# Altium integrated library NSC Interface.IntLib: 1288 symbols (part 12 of 45)
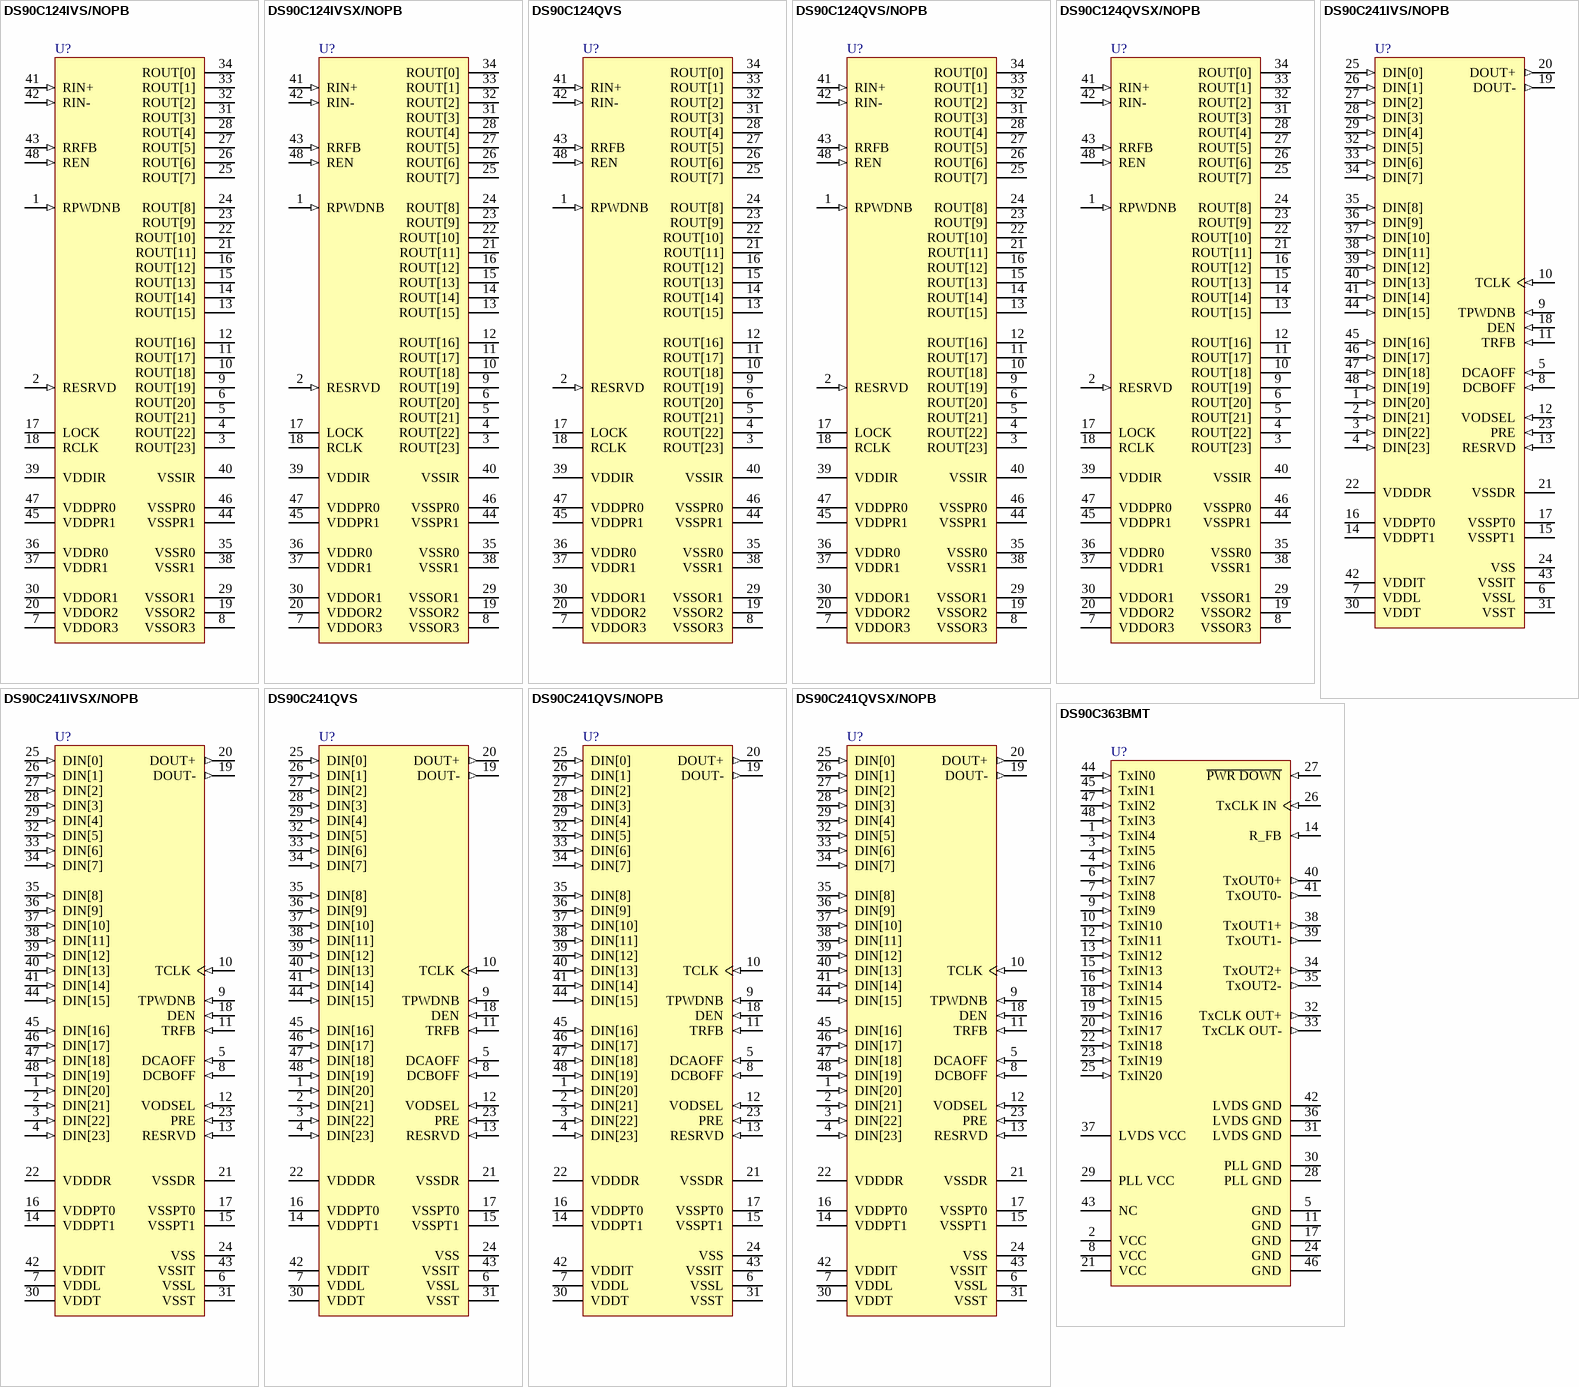
[diagram p123: symbols DS90C124IVS/NOPB to DS90C363BMT]

## DS90C124QVS
designator U?
5-35MHz DC- Balanced 24-Bit FPD-Link II Deserializer, 48 pin TQFP; PartNumber: DS90C124QVS; Manufacturer: National Semiconductor; PackageTopMarking: NSUZXYTT*DS90C124*QVS; PowerWise: N; CompType: Interface IC; Published: 4-Dec-2008; LatestRevisionDate: 01-Oct-2010; LatestRevisionNote: Changed description. Updated datasheet to version Aug-2009.; DatasheetVersion: Aug-2009; PackageVersion: revA, Apr-2000; PackageReference: VBC48A; Publisher: Altium Limited; PackageDescription: TQFP, Jedec Metric, 7 x 7 x 1mm, 48 Lead, 0.5mm Pitch; RoHS: Y; PinCount: 48; Code_JEDEC: MS-026-ABC; ComponentLink1Description: DS90C124 Datasheet; ComponentLink1URL: http://www.national.com/ds/DS/DS90C124.pdf; ComponentLink2Description: DS90C124 Web Page; ComponentLink2URL: http://www.national.com/pf/DS/DS90C124.html; ComponentLink3Description: VBC48A Package Page; ComponentLink3URL: http://www.national.com/packaging/folders/vbc48a.html
footprint VBC48A_N (Thin QFP, 48-Leads, Body 7x7mm, Pitch 0.5mm, IPC Medium Density)
footprint VBC48A_L (Thin QFP, 48-Leads, Body 7x7mm, Pitch 0.5mm, IPC High Density)
footprint VBC48A_M (Thin QFP, 48-Leads, Body 7x7mm, Pitch 0.5mm, IPC Low Density)
pins: 1 RPWDNB (in), 2 RESRVD (in), 3 ROUT[23] (hiz), 4 ROUT[22] (hiz), 5 ROUT[21] (hiz), 6 ROUT[20] (hiz), 7 VDDOR3 (power), 8 VSSOR3 (power), 9 ROUT[19] (hiz), 10 ROUT[18] (hiz), 11 ROUT[17] (hiz), 12 ROUT[16] (hiz), 13 ROUT[15] (hiz), 14 ROUT[14] (hiz), 15 ROUT[13] (hiz), 16 ROUT[12] (hiz), 17 LOCK (hiz), 18 RCLK (hiz), 19 VSSOR2 (power), 20 VDDOR2 (power), 21 ROUT[11] (hiz), 22 ROUT[10] (hiz), 23 ROUT[9] (hiz), 24 ROUT[8] (hiz), 25 ROUT[7] (hiz), 26 ROUT[6] (hiz), 27 ROUT[5] (hiz), 28 ROUT[4] (hiz), 29 VSSOR1 (power), 30 VDDOR1 (power), 31 ROUT[3] (hiz), 32 ROUT[2] (hiz), 33 ROUT[1] (hiz), 34 ROUT[0] (hiz), 35 VSSR0 (power), 36 VDDR0 (power), 37 VDDR1 (power), 38 VSSR1 (power), 39 VDDIR (power), 40 VSSIR (power), 41 RIN+ (in), 42 RIN- (in), 43 RRFB (in), 44 VSSPR1 (power), 45 VDDPR1 (power), 46 VSSPR0 (power), 47 VDDPR0 (power), 48 REN (in)

## DS90C124QVS/NOPB
designator U?
5-35MHz DC- Balanced 24-Bit FPD-Link II Deserializer, 48-pin TQFP, Pb-Free; PartNumber: DS90C124QVS/NOPB; Manufacturer: National Semiconductor; PackageTopMarking: NSUZXYTT*DS90C124*QVS; PowerWise: N; CompType: Interface IC; Published: 1-Mar-2010; LatestRevisionDate: 01-Oct-2010; LatestRevisionNote: Updated datasheet to version Aug-2009.; DatasheetVersion: Aug-2009; PackageVersion: revA, Apr-2000; PackageReference: VBC48A; Publisher: Altium Limited; PackageDescription: TQFP, Jedec Metric, 7 x 7 x 1mm, 48 Lead, 0.5mm Pitch; Supplier 1: Digi-Key; Supplier Part Number 1: DS90C124QVS-ND; RoHS: Y; PinCount: 48; Code_JEDEC: MS-026-ABC; ComponentLink1Description: DS90C124 Datasheet; ComponentLink1URL: http://www.national.com/ds/DS/DS90C124.pdf; ComponentLink2Description: DS90C124 Web Page; ComponentLink2URL: http://www.national.com/pf/DS/DS90C124.html; ComponentLink3Description: VBC48A Package Page; ComponentLink3URL: http://www.national.com/packaging/folders/vbc48a.html
footprint VBC48A_N (Thin QFP, 48-Leads, Body 7x7mm, Pitch 0.5mm, IPC Medium Density)
footprint VBC48A_L (Thin QFP, 48-Leads, Body 7x7mm, Pitch 0.5mm, IPC High Density)
footprint VBC48A_M (Thin QFP, 48-Leads, Body 7x7mm, Pitch 0.5mm, IPC Low Density)
pins: 1 RPWDNB (in), 2 RESRVD (in), 3 ROUT[23] (hiz), 4 ROUT[22] (hiz), 5 ROUT[21] (hiz), 6 ROUT[20] (hiz), 7 VDDOR3 (power), 8 VSSOR3 (power), 9 ROUT[19] (hiz), 10 ROUT[18] (hiz), 11 ROUT[17] (hiz), 12 ROUT[16] (hiz), 13 ROUT[15] (hiz), 14 ROUT[14] (hiz), 15 ROUT[13] (hiz), 16 ROUT[12] (hiz), 17 LOCK (hiz), 18 RCLK (hiz), 19 VSSOR2 (power), 20 VDDOR2 (power), 21 ROUT[11] (hiz), 22 ROUT[10] (hiz), 23 ROUT[9] (hiz), 24 ROUT[8] (hiz), 25 ROUT[7] (hiz), 26 ROUT[6] (hiz), 27 ROUT[5] (hiz), 28 ROUT[4] (hiz), 29 VSSOR1 (power), 30 VDDOR1 (power), 31 ROUT[3] (hiz), 32 ROUT[2] (hiz), 33 ROUT[1] (hiz), 34 ROUT[0] (hiz), 35 VSSR0 (power), 36 VDDR0 (power), 37 VDDR1 (power), 38 VSSR1 (power), 39 VDDIR (power), 40 VSSIR (power), 41 RIN+ (in), 42 RIN- (in), 43 RRFB (in), 44 VSSPR1 (power), 45 VDDPR1 (power), 46 VSSPR0 (power), 47 VDDPR0 (power), 48 REN (in)

## DS90C124QVSX/NOPB
designator U?
5-35MHz DC- Balanced 24-Bit FPD-Link II Deserializer, 48-pin TQFP, Pb-Free; PartNumber: DS90C124QVSX/NOPB; Manufacturer: National Semiconductor; PackageTopMarking: NSUZXYTT*DS90C124*QVS; PowerWise: N; CompType: Interface IC; Published: 1-Mar-2010; LatestRevisionDate: 01-Oct-2010; LatestRevisionNote: Updated datasheet to version Aug-2009.; DatasheetVersion: Aug-2009; PackageVersion: revA, Apr-2000; PackageReference: VBC48A; Publisher: Altium Limited; PackageDescription: TQFP, Jedec Metric, 7 x 7 x 1mm, 48 Lead, 0.5mm Pitch; Supplier 1: Digi-Key; Supplier Part Number 1: DS90C124QVSX-ND; RoHS: Y; PinCount: 48; Code_JEDEC: MS-026-ABC; ComponentLink1Description: DS90C124 Datasheet; ComponentLink1URL: http://www.national.com/ds/DS/DS90C124.pdf; ComponentLink2Description: DS90C124 Web Page; ComponentLink2URL: http://www.national.com/pf/DS/DS90C124.html; ComponentLink3Description: VBC48A Package Page; ComponentLink3URL: http://www.national.com/packaging/folders/vbc48a.html
footprint VBC48A_N (Thin QFP, 48-Leads, Body 7x7mm, Pitch 0.5mm, IPC Medium Density)
footprint VBC48A_L (Thin QFP, 48-Leads, Body 7x7mm, Pitch 0.5mm, IPC High Density)
footprint VBC48A_M (Thin QFP, 48-Leads, Body 7x7mm, Pitch 0.5mm, IPC Low Density)
pins: 1 RPWDNB (in), 2 RESRVD (in), 3 ROUT[23] (hiz), 4 ROUT[22] (hiz), 5 ROUT[21] (hiz), 6 ROUT[20] (hiz), 7 VDDOR3 (power), 8 VSSOR3 (power), 9 ROUT[19] (hiz), 10 ROUT[18] (hiz), 11 ROUT[17] (hiz), 12 ROUT[16] (hiz), 13 ROUT[15] (hiz), 14 ROUT[14] (hiz), 15 ROUT[13] (hiz), 16 ROUT[12] (hiz), 17 LOCK (hiz), 18 RCLK (hiz), 19 VSSOR2 (power), 20 VDDOR2 (power), 21 ROUT[11] (hiz), 22 ROUT[10] (hiz), 23 ROUT[9] (hiz), 24 ROUT[8] (hiz), 25 ROUT[7] (hiz), 26 ROUT[6] (hiz), 27 ROUT[5] (hiz), 28 ROUT[4] (hiz), 29 VSSOR1 (power), 30 VDDOR1 (power), 31 ROUT[3] (hiz), 32 ROUT[2] (hiz), 33 ROUT[1] (hiz), 34 ROUT[0] (hiz), 35 VSSR0 (power), 36 VDDR0 (power), 37 VDDR1 (power), 38 VSSR1 (power), 39 VDDIR (power), 40 VSSIR (power), 41 RIN+ (in), 42 RIN- (in), 43 RRFB (in), 44 VSSPR1 (power), 45 VDDPR1 (power), 46 VSSPR0 (power), 47 VDDPR0 (power), 48 REN (in)

## DS90C241IVS/NOPB
designator U?
5-35MHz DC- Balanced 24-Bit FPD-Link II Serializer, 48 pin TQFP; PartNumber: DS90C241IVS/NOPB; Manufacturer: National Semiconductor; PackageTopMarking: NSUZXYTT*DS90C241*IVS; PowerWise: N; CompType: Interface IC; Published: 16-Nov-2010; DatasheetVersion: Aug-2009; PackageVersion: revA, Apr-2000; PackageReference: VBC48A; Publisher: Altium Limited; PackageDescription: TQFP, Jedec Metric, 7 x 7 x 1mm, 48 Lead, 0.5mm Pitch; Supplier 1: Digi-Key; Supplier Part Number 1: DS90C241IVS-ND; Supplier 2: Farnell; Supplier Part Number 2: 1654917; RoHS: Y; PinCount: 48; Code_JEDEC: MS-026-ABC; ComponentLink1Description: DS90C241 Datasheet; ComponentLink1URL: http://www.national.com/ds/DS/DS90C241.pdf; ComponentLink2Description: DS90C241 Web Page; ComponentLink2URL: http://www.national.com/pf/DS/DS90C241.html; ComponentLink3Description: VBC48A Package Page; ComponentLink3URL: http://www.national.com/packaging/folders/vbc48a.html
footprint VBC48A_N (Thin QFP, 48-Leads, Body 7x7mm, Pitch 0.5mm, IPC Medium Density)
footprint VBC48A_L (Thin QFP, 48-Leads, Body 7x7mm, Pitch 0.5mm, IPC High Density)
footprint VBC48A_M (Thin QFP, 48-Leads, Body 7x7mm, Pitch 0.5mm, IPC Low Density)
pins: 1 DIN[20] (in), 2 DIN[21] (in), 3 DIN[22] (in), 4 DIN[23] (in), 5 DCAOFF (in), 6 VSSL (power), 7 VDDL (power), 8 DCBOFF (in), 9 TPWDNB (in), 10 TCLK (in), 11 TRFB (in), 12 VODSEL (in), 13 RESRVD (in), 14 VDDPT1 (power), 15 VSSPT1 (power), 16 VDDPT0 (power), 17 VSSPT0 (power), 18 DEN (in), 19 DOUT- (out), 20 DOUT+ (out), 21 VSSDR (power), 22 VDDDR (power), 23 PRE (in), 24 VSS (power), 25 DIN[0] (in), 26 DIN[1] (in), 27 DIN[2] (in), 28 DIN[3] (in), 29 DIN[4] (in), 30 VDDT (power), 31 VSST (power), 32 DIN[5] (in), 33 DIN[6] (in), 34 DIN[7] (in), 35 DIN[8] (in), 36 DIN[9] (in), 37 DIN[10] (in), 38 DIN[11] (in), 39 DIN[12] (in), 40 DIN[13] (in), 41 DIN[14] (in), 42 VDDIT (power), 43 VSSIT (power), 44 DIN[15] (in), 45 DIN[16] (in), 46 DIN[17] (in), 47 DIN[18] (in), 48 DIN[19] (in)

## DS90C241IVSX/NOPB
designator U?
5-35MHz DC- Balanced 24-Bit FPD-Link II Serializer, 48 pin TQFP; PartNumber: DS90C241IVSX/NOPB; Manufacturer: National Semiconductor; PackageTopMarking: NSUZXYTT*DS90C241*IVS; PowerWise: N; CompType: Interface IC; Published: 16-Nov-2010; DatasheetVersion: Aug-2009; PackageVersion: revA, Apr-2000; PackageReference: VBC48A; Publisher: Altium Limited; PackageDescription: TQFP, Jedec Metric, 7 x 7 x 1mm, 48 Lead, 0.5mm Pitch; Supplier 1: Digi-Key; Supplier Part Number 1: DS90C241IVSX-ND; RoHS: Y; PinCount: 48; Code_JEDEC: MS-026-ABC; ComponentLink1Description: DS90C241 Datasheet; ComponentLink1URL: http://www.national.com/ds/DS/DS90C241.pdf; ComponentLink2Description: DS90C241 Web Page; ComponentLink2URL: http://www.national.com/pf/DS/DS90C241.html; ComponentLink3Description: VBC48A Package Page; ComponentLink3URL: http://www.national.com/packaging/folders/vbc48a.html
footprint VBC48A_N (Thin QFP, 48-Leads, Body 7x7mm, Pitch 0.5mm, IPC Medium Density)
footprint VBC48A_L (Thin QFP, 48-Leads, Body 7x7mm, Pitch 0.5mm, IPC High Density)
footprint VBC48A_M (Thin QFP, 48-Leads, Body 7x7mm, Pitch 0.5mm, IPC Low Density)
pins: 1 DIN[20] (in), 2 DIN[21] (in), 3 DIN[22] (in), 4 DIN[23] (in), 5 DCAOFF (in), 6 VSSL (power), 7 VDDL (power), 8 DCBOFF (in), 9 TPWDNB (in), 10 TCLK (in), 11 TRFB (in), 12 VODSEL (in), 13 RESRVD (in), 14 VDDPT1 (power), 15 VSSPT1 (power), 16 VDDPT0 (power), 17 VSSPT0 (power), 18 DEN (in), 19 DOUT- (out), 20 DOUT+ (out), 21 VSSDR (power), 22 VDDDR (power), 23 PRE (in), 24 VSS (power), 25 DIN[0] (in), 26 DIN[1] (in), 27 DIN[2] (in), 28 DIN[3] (in), 29 DIN[4] (in), 30 VDDT (power), 31 VSST (power), 32 DIN[5] (in), 33 DIN[6] (in), 34 DIN[7] (in), 35 DIN[8] (in), 36 DIN[9] (in), 37 DIN[10] (in), 38 DIN[11] (in), 39 DIN[12] (in), 40 DIN[13] (in), 41 DIN[14] (in), 42 VDDIT (power), 43 VSSIT (power), 44 DIN[15] (in), 45 DIN[16] (in), 46 DIN[17] (in), 47 DIN[18] (in), 48 DIN[19] (in)

## DS90C241QVS
designator U?
5-35MHz DC- Balanced 24-Bit LVDS Serializer, 48-pin TQFP; PartNumber: DS90C241QVS; Manufacturer: National Semiconductor; PackageTopMarking: NSUZXYTT*DS90C241*QVS; PowerWise: N; CompType: Interface IC; Published: 4-Dec-2008; DatasheetVersion: Aug-2009; PackageVersion: revA, Apr-2000; PackageReference: VBC48A; Publisher: Altium Limited; PackageDescription: TQFP, Jedec Metric, 7 x 7 x 1mm, 48 Lead, 0.5mm Pitch; Supplier 1: Farnell; Supplier Part Number 1: 1589515; RoHS: Y; PinCount: 48; Code_JEDEC: MS-026-ABC; ComponentLink1Description: DS90C241 Datasheet; ComponentLink1URL: http://www.national.com/ds/DS/DS90C241.pdf; ComponentLink2Description: DS90C241 Web Page; ComponentLink2URL: http://www.national.com/pf/DS/DS90C241.html; ComponentLink3Description: VBC48A Package Page; ComponentLink3URL: http://www.national.com/packaging/folders/vbc48a.html
footprint VBC48A_N (Thin QFP, 48-Leads, Body 7x7mm, Pitch 0.5mm, IPC Medium Density)
footprint VBC48A_L (Thin QFP, 48-Leads, Body 7x7mm, Pitch 0.5mm, IPC High Density)
footprint VBC48A_M (Thin QFP, 48-Leads, Body 7x7mm, Pitch 0.5mm, IPC Low Density)
pins: 1 DIN[20] (in), 2 DIN[21] (in), 3 DIN[22] (in), 4 DIN[23] (in), 5 DCAOFF (in), 6 VSSL (power), 7 VDDL (power), 8 DCBOFF (in), 9 TPWDNB (in), 10 TCLK (in), 11 TRFB (in), 12 VODSEL (in), 13 RESRVD (in), 14 VDDPT1 (power), 15 VSSPT1 (power), 16 VDDPT0 (power), 17 VSSPT0 (power), 18 DEN (in), 19 DOUT- (out), 20 DOUT+ (out), 21 VSSDR (power), 22 VDDDR (power), 23 PRE (in), 24 VSS (power), 25 DIN[0] (in), 26 DIN[1] (in), 27 DIN[2] (in), 28 DIN[3] (in), 29 DIN[4] (in), 30 VDDT (power), 31 VSST (power), 32 DIN[5] (in), 33 DIN[6] (in), 34 DIN[7] (in), 35 DIN[8] (in), 36 DIN[9] (in), 37 DIN[10] (in), 38 DIN[11] (in), 39 DIN[12] (in), 40 DIN[13] (in), 41 DIN[14] (in), 42 VDDIT (power), 43 VSSIT (power), 44 DIN[15] (in), 45 DIN[16] (in), 46 DIN[17] (in), 47 DIN[18] (in), 48 DIN[19] (in)

## DS90C241QVS/NOPB
designator U?
5-35MHz DC- Balanced 24-Bit FPD-Link II Serializer, 48-pin TQFP, Pb-Free; PartNumber: DS90C241QVS/NOPB; Manufacturer: National Semiconductor; PackageTopMarking: NSUZXYTT*DS90C241*QVS; PowerWise: N; CompType: Interface IC; Published: 1-Mar-2010; DatasheetVersion: Aug-2009; PackageVersion: revA, Apr-2000; PackageReference: VBC48A; Publisher: Altium Limited; PackageDescription: TQFP, Jedec Metric, 7 x 7 x 1mm, 48 Lead, 0.5mm Pitch; Supplier 1: Digi-Key; Supplier Part Number 1: DS90C241QVS-ND; RoHS: Y; PinCount: 48; Code_JEDEC: MS-026-ABC; ComponentLink1Description: DS90C241 Datasheet; ComponentLink1URL: http://www.national.com/ds/DS/DS90C241.pdf; ComponentLink2Description: DS90C241 Web Page; ComponentLink2URL: http://www.national.com/pf/DS/DS90C241.html; ComponentLink3Description: VBC48A Package Page; ComponentLink3URL: http://www.national.com/packaging/folders/vbc48a.html
footprint VBC48A_N (Thin QFP, 48-Leads, Body 7x7mm, Pitch 0.5mm, IPC Medium Density)
footprint VBC48A_L (Thin QFP, 48-Leads, Body 7x7mm, Pitch 0.5mm, IPC High Density)
footprint VBC48A_M (Thin QFP, 48-Leads, Body 7x7mm, Pitch 0.5mm, IPC Low Density)
pins: 1 DIN[20] (in), 2 DIN[21] (in), 3 DIN[22] (in), 4 DIN[23] (in), 5 DCAOFF (in), 6 VSSL (power), 7 VDDL (power), 8 DCBOFF (in), 9 TPWDNB (in), 10 TCLK (in), 11 TRFB (in), 12 VODSEL (in), 13 RESRVD (in), 14 VDDPT1 (power), 15 VSSPT1 (power), 16 VDDPT0 (power), 17 VSSPT0 (power), 18 DEN (in), 19 DOUT- (out), 20 DOUT+ (out), 21 VSSDR (power), 22 VDDDR (power), 23 PRE (in), 24 VSS (power), 25 DIN[0] (in), 26 DIN[1] (in), 27 DIN[2] (in), 28 DIN[3] (in), 29 DIN[4] (in), 30 VDDT (power), 31 VSST (power), 32 DIN[5] (in), 33 DIN[6] (in), 34 DIN[7] (in), 35 DIN[8] (in), 36 DIN[9] (in), 37 DIN[10] (in), 38 DIN[11] (in), 39 DIN[12] (in), 40 DIN[13] (in), 41 DIN[14] (in), 42 VDDIT (power), 43 VSSIT (power), 44 DIN[15] (in), 45 DIN[16] (in), 46 DIN[17] (in), 47 DIN[18] (in), 48 DIN[19] (in)

## DS90C241QVSX/NOPB
designator U?
5-35MHz DC- Balanced 24-Bit FPD-Link II Serializer, 48-pin TQFP, Pb-Free; PartNumber: DS90C241QVSX/NOPB; Manufacturer: National Semiconductor; PackageTopMarking: NSUZXYTT*DS90C241*QVS; PowerWise: N; CompType: Interface IC; Published: 1-Mar-2010; DatasheetVersion: Aug-2009; PackageVersion: revA, Apr-2000; PackageReference: VBC48A; Publisher: Altium Limited; PackageDescription: TQFP, Jedec Metric, 7 x 7 x 1mm, 48 Lead, 0.5mm Pitch; Supplier 1: Digi-Key; Supplier Part Number 1: DS90C241QVSX-ND; RoHS: Y; PinCount: 48; Code_JEDEC: MS-026-ABC; ComponentLink1Description: DS90C241 Datasheet; ComponentLink1URL: http://www.national.com/ds/DS/DS90C241.pdf; ComponentLink2Description: DS90C241 Web Page; ComponentLink2URL: http://www.national.com/pf/DS/DS90C241.html; ComponentLink3Description: VBC48A Package Page; ComponentLink3URL: http://www.national.com/packaging/folders/vbc48a.html
footprint VBC48A_N (Thin QFP, 48-Leads, Body 7x7mm, Pitch 0.5mm, IPC Medium Density)
footprint VBC48A_L (Thin QFP, 48-Leads, Body 7x7mm, Pitch 0.5mm, IPC High Density)
footprint VBC48A_M (Thin QFP, 48-Leads, Body 7x7mm, Pitch 0.5mm, IPC Low Density)
pins: 1 DIN[20] (in), 2 DIN[21] (in), 3 DIN[22] (in), 4 DIN[23] (in), 5 DCAOFF (in), 6 VSSL (power), 7 VDDL (power), 8 DCBOFF (in), 9 TPWDNB (in), 10 TCLK (in), 11 TRFB (in), 12 VODSEL (in), 13 RESRVD (in), 14 VDDPT1 (power), 15 VSSPT1 (power), 16 VDDPT0 (power), 17 VSSPT0 (power), 18 DEN (in), 19 DOUT- (out), 20 DOUT+ (out), 21 VSSDR (power), 22 VDDDR (power), 23 PRE (in), 24 VSS (power), 25 DIN[0] (in), 26 DIN[1] (in), 27 DIN[2] (in), 28 DIN[3] (in), 29 DIN[4] (in), 30 VDDT (power), 31 VSST (power), 32 DIN[5] (in), 33 DIN[6] (in), 34 DIN[7] (in), 35 DIN[8] (in), 36 DIN[9] (in), 37 DIN[10] (in), 38 DIN[11] (in), 39 DIN[12] (in), 40 DIN[13] (in), 41 DIN[14] (in), 42 VDDIT (power), 43 VSSIT (power), 44 DIN[15] (in), 45 DIN[16] (in), 46 DIN[17] (in), 47 DIN[18] (in), 48 DIN[19] (in)

## DS90C363BMT
designator U?
+3.3V Programmable LVDS Transmitter 18-Bit Flat Panel Display (FPD) Link - 65MHz, 48-pin TSSOP; PartNumber: DS90C363BMT; Manufacturer: National Semiconductor; PackageTopMarking: NSUZXYTTE#*DS90C363BMT; PowerWise: N; CompType: Interface IC; Published: 4-Dec-2008; DatasheetVersion: Oct-2006; PackageVersion: revE, Apr-2003; PackageReference: MTD48; Publisher: Altium Limited; PackageDescription: Molded TSSOP, Jedec, 12.5 x 6.1 x 0.9mm Body, 48 Lead, 0.50mm Pitch; Supplier 1: Farnell; Supplier Part Number 1: 8181250; RoHS: N; PinCount: 48; Code_JEDEC: MO-153-ED; ComponentLink1Description: DS90C363B Datasheet; ComponentLink1URL: http://www.national.com/ds/DS/DS90C363B.pdf; ComponentLink2Description: DS90C363B Web Page; ComponentLink2URL: http://www.national.com/pf/DS/DS90C363B.html; ComponentLink3Description: MTD48 Package Page; ComponentLink3URL: http://www.national.com/packaging/folders/mtd48.html
footprint MTD48_N (TSSOP, 48-Leads, Body 12.5x6.1mm, Pitch 0.5mm, IPC Medium Density)
footprint MTD48_L (TSSOP, 48-Leads, Body 12.5x6.1mm, Pitch 0.5mm, IPC High Density)
footprint MTD48_M (TSSOP, 48-Leads, Body 12.5x6.1mm, Pitch 0.5mm, IPC Low Density)
pins: 1 TxIN4 (in), 2 VCC (power), 3 TxIN5 (in), 4 TxIN6 (in), 5 GND (power), 6 TxIN7 (in), 7 TxIN8 (in), 8 VCC (power), 9 TxIN9 (in), 10 TxIN10 (in), 11 GND (power), 12 TxIN11 (in), 13 TxIN12 (in), 14 R_FB (in), 15 TxIN13 (in), 16 TxIN14 (in), 17 GND (power), 18 TxIN15 (in), 19 TxIN16 (in), 20 TxIN17 (in), 21 VCC (power), 22 TxIN18 (in), 23 TxIN19 (in), 24 GND (power), 25 TxIN20 (in), 26 TxCLK IN (in), 27 ~{PWR DOWN} (in), 28 PLL GND (power), 29 PLL VCC (power), 30 PLL GND (power), 31 LVDS GND (power), 32 TxCLK OUT+ (out), 33 TxCLK OUT- (out), 34 TxOUT2+ (out), 35 TxOUT2- (out), 36 LVDS GND (power), 37 LVDS VCC (power), 38 TxOUT1+ (out), 39 TxOUT1- (out), 40 TxOUT0+ (out), 41 TxOUT0- (out), 42 LVDS GND (power), 43 NC, 44 TxIN0 (in), 45 TxIN1 (in), 46 GND (power), 47 TxIN2 (in), 48 TxIN3 (in)

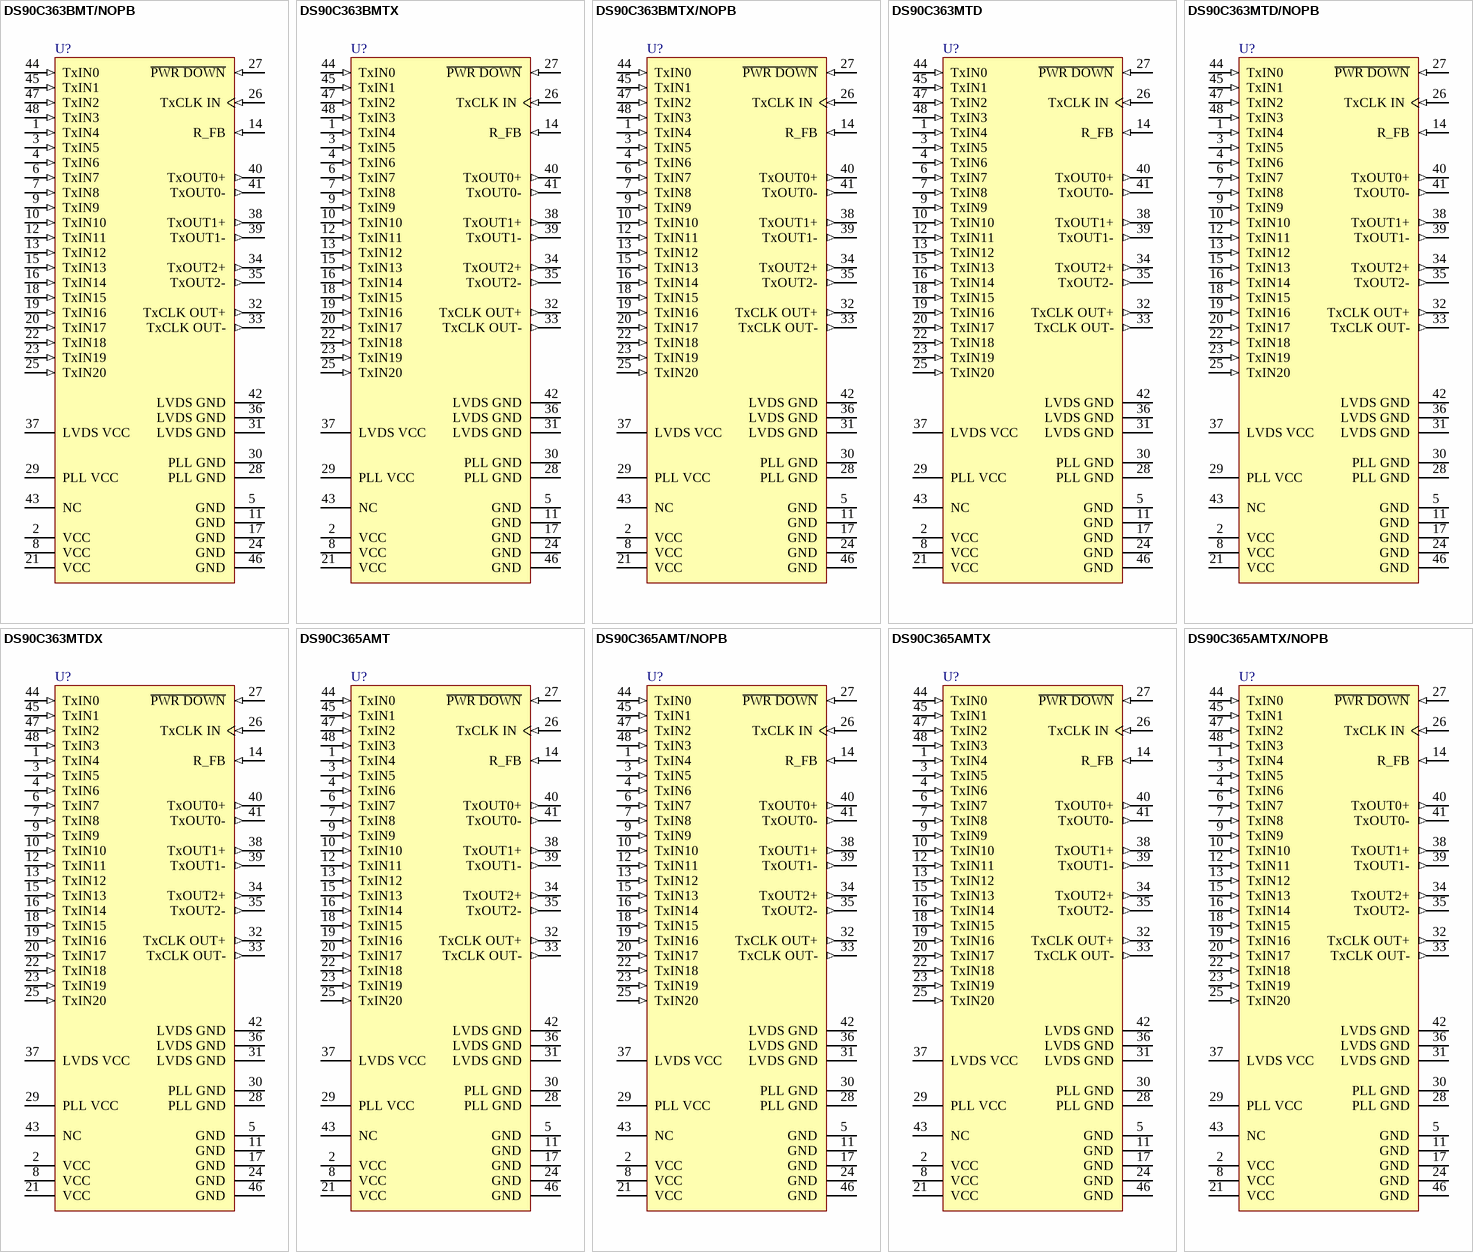
[diagram p28: symbols DS90C363BMT/NOPB to DS90C365AMTX/NOPB]

## DS90C363BMT/NOPB
designator U?
+3.3V Programmable LVDS Transmitter 18-Bit Flat Panel Display (FPD) Link - 65MHz, 48-pin TSSOP, Pb-Free; PartNumber: DS90C363BMT/NOPB; Manufacturer: National Semiconductor; PackageTopMarking: NSUZXYTTE#*DS90C363BMT; PowerWise: N; CompType: Interface IC; Published: 1-Mar-2010; DatasheetVersion: Oct-2006; PackageVersion: revE, Apr-2003; PackageReference: MTD48; Publisher: Altium Limited; PackageDescription: Molded TSSOP, Jedec, 12.5 x 6.1 x 0.9mm Body, 48 Lead, 0.50mm Pitch; Supplier 1: Digi-Key; Supplier Part Number 1: DS90C363BMT-ND; Supplier 2: Farnell; Supplier Part Number 2: 1559306; RoHS: Y; PinCount: 48; Code_JEDEC: MO-153-ED; ComponentLink1Description: DS90C363B Datasheet; ComponentLink1URL: http://www.national.com/ds/DS/DS90C363B.pdf; ComponentLink2Description: DS90C363B Web Page; ComponentLink2URL: http://www.national.com/pf/DS/DS90C363B.html; ComponentLink3Description: MTD48 Package Page; ComponentLink3URL: http://www.national.com/packaging/folders/mtd48.html
footprint MTD48_N (TSSOP, 48-Leads, Body 12.5x6.1mm, Pitch 0.5mm, IPC Medium Density)
footprint MTD48_L (TSSOP, 48-Leads, Body 12.5x6.1mm, Pitch 0.5mm, IPC High Density)
footprint MTD48_M (TSSOP, 48-Leads, Body 12.5x6.1mm, Pitch 0.5mm, IPC Low Density)
pins: 1 TxIN4 (in), 2 VCC (power), 3 TxIN5 (in), 4 TxIN6 (in), 5 GND (power), 6 TxIN7 (in), 7 TxIN8 (in), 8 VCC (power), 9 TxIN9 (in), 10 TxIN10 (in), 11 GND (power), 12 TxIN11 (in), 13 TxIN12 (in), 14 R_FB (in), 15 TxIN13 (in), 16 TxIN14 (in), 17 GND (power), 18 TxIN15 (in), 19 TxIN16 (in), 20 TxIN17 (in), 21 VCC (power), 22 TxIN18 (in), 23 TxIN19 (in), 24 GND (power), 25 TxIN20 (in), 26 TxCLK IN (in), 27 ~{PWR DOWN} (in), 28 PLL GND (power), 29 PLL VCC (power), 30 PLL GND (power), 31 LVDS GND (power), 32 TxCLK OUT+ (out), 33 TxCLK OUT- (out), 34 TxOUT2+ (out), 35 TxOUT2- (out), 36 LVDS GND (power), 37 LVDS VCC (power), 38 TxOUT1+ (out), 39 TxOUT1- (out), 40 TxOUT0+ (out), 41 TxOUT0- (out), 42 LVDS GND (power), 43 NC, 44 TxIN0 (in), 45 TxIN1 (in), 46 GND (power), 47 TxIN2 (in), 48 TxIN3 (in)

## DS90C363BMTX
designator U?
+3.3V Programmable LVDS Transmitter 18-Bit Flat Panel Display (FPD) Link - 65MHz, 48-pin TSSOP; PartNumber: DS90C363BMTX; Manufacturer: National Semiconductor; PackageTopMarking: NSUZXYTTE#*DS90C363BMT; PowerWise: N; CompType: Interface IC; Published: 1-Mar-2010; DatasheetVersion: Oct-2006; PackageVersion: revE, Apr-2003; PackageReference: MTD48; Publisher: Altium Limited; PackageDescription: Molded TSSOP, Jedec, 12.5 x 6.1 x 0.9mm Body, 48 Lead, 0.50mm Pitch; RoHS: N; PinCount: 48; Code_JEDEC: MO-153-ED; ComponentLink1Description: DS90C363B Datasheet; ComponentLink1URL: http://www.national.com/ds/DS/DS90C363B.pdf; ComponentLink2Description: DS90C363B Web Page; ComponentLink2URL: http://www.national.com/pf/DS/DS90C363B.html; ComponentLink3Description: MTD48 Package Page; ComponentLink3URL: http://www.national.com/packaging/folders/mtd48.html
footprint MTD48_N (TSSOP, 48-Leads, Body 12.5x6.1mm, Pitch 0.5mm, IPC Medium Density)
footprint MTD48_L (TSSOP, 48-Leads, Body 12.5x6.1mm, Pitch 0.5mm, IPC High Density)
footprint MTD48_M (TSSOP, 48-Leads, Body 12.5x6.1mm, Pitch 0.5mm, IPC Low Density)
pins: 1 TxIN4 (in), 2 VCC (power), 3 TxIN5 (in), 4 TxIN6 (in), 5 GND (power), 6 TxIN7 (in), 7 TxIN8 (in), 8 VCC (power), 9 TxIN9 (in), 10 TxIN10 (in), 11 GND (power), 12 TxIN11 (in), 13 TxIN12 (in), 14 R_FB (in), 15 TxIN13 (in), 16 TxIN14 (in), 17 GND (power), 18 TxIN15 (in), 19 TxIN16 (in), 20 TxIN17 (in), 21 VCC (power), 22 TxIN18 (in), 23 TxIN19 (in), 24 GND (power), 25 TxIN20 (in), 26 TxCLK IN (in), 27 ~{PWR DOWN} (in), 28 PLL GND (power), 29 PLL VCC (power), 30 PLL GND (power), 31 LVDS GND (power), 32 TxCLK OUT+ (out), 33 TxCLK OUT- (out), 34 TxOUT2+ (out), 35 TxOUT2- (out), 36 LVDS GND (power), 37 LVDS VCC (power), 38 TxOUT1+ (out), 39 TxOUT1- (out), 40 TxOUT0+ (out), 41 TxOUT0- (out), 42 LVDS GND (power), 43 NC, 44 TxIN0 (in), 45 TxIN1 (in), 46 GND (power), 47 TxIN2 (in), 48 TxIN3 (in)

## DS90C363BMTX/NOPB
designator U?
+3.3V Programmable LVDS Transmitter 18-Bit Flat Panel Display (FPD) Link - 65MHz, 48-pin TSSOP, Pb-Free; PartNumber: DS90C363BMTX/NOPB; Manufacturer: National Semiconductor; PackageTopMarking: NSUZXYTTE#*DS90C363BMT; PowerWise: N; CompType: Interface IC; Published: 1-Mar-2010; DatasheetVersion: Oct-2006; PackageVersion: revE, Apr-2003; PackageReference: MTD48; Publisher: Altium Limited; PackageDescription: Molded TSSOP, Jedec, 12.5 x 6.1 x 0.9mm Body, 48 Lead, 0.50mm Pitch; Supplier 1: Digi-Key; Supplier Part Number 1: DS90C363BMTX-ND; RoHS: Y; PinCount: 48; Code_JEDEC: MO-153-ED; ComponentLink1Description: DS90C363B Datasheet; ComponentLink1URL: http://www.national.com/ds/DS/DS90C363B.pdf; ComponentLink2Description: DS90C363B Web Page; ComponentLink2URL: http://www.national.com/pf/DS/DS90C363B.html; ComponentLink3Description: MTD48 Package Page; ComponentLink3URL: http://www.national.com/packaging/folders/mtd48.html
footprint MTD48_N (TSSOP, 48-Leads, Body 12.5x6.1mm, Pitch 0.5mm, IPC Medium Density)
footprint MTD48_L (TSSOP, 48-Leads, Body 12.5x6.1mm, Pitch 0.5mm, IPC High Density)
footprint MTD48_M (TSSOP, 48-Leads, Body 12.5x6.1mm, Pitch 0.5mm, IPC Low Density)
pins: 1 TxIN4 (in), 2 VCC (power), 3 TxIN5 (in), 4 TxIN6 (in), 5 GND (power), 6 TxIN7 (in), 7 TxIN8 (in), 8 VCC (power), 9 TxIN9 (in), 10 TxIN10 (in), 11 GND (power), 12 TxIN11 (in), 13 TxIN12 (in), 14 R_FB (in), 15 TxIN13 (in), 16 TxIN14 (in), 17 GND (power), 18 TxIN15 (in), 19 TxIN16 (in), 20 TxIN17 (in), 21 VCC (power), 22 TxIN18 (in), 23 TxIN19 (in), 24 GND (power), 25 TxIN20 (in), 26 TxCLK IN (in), 27 ~{PWR DOWN} (in), 28 PLL GND (power), 29 PLL VCC (power), 30 PLL GND (power), 31 LVDS GND (power), 32 TxCLK OUT+ (out), 33 TxCLK OUT- (out), 34 TxOUT2+ (out), 35 TxOUT2- (out), 36 LVDS GND (power), 37 LVDS VCC (power), 38 TxOUT1+ (out), 39 TxOUT1- (out), 40 TxOUT0+ (out), 41 TxOUT0- (out), 42 LVDS GND (power), 43 NC, 44 TxIN0 (in), 45 TxIN1 (in), 46 GND (power), 47 TxIN2 (in), 48 TxIN3 (in)

## DS90C363MTD
designator U?
+3.3V Programmable LVDS Transmitter 18-Bit Flat Panel Display (FPD) Link-65 MHz, 48 pin TSSOP; PartNumber: DS90C363MTD; Manufacturer: National Semiconductor; PackageTopMarking: NS2ZXYTTE#*DS90C363MTD*BBBBB; PowerWise: N; CompType: Interface IC; Published: 16-Nov-2010; DatasheetVersion: Sep-1999; PackageVersion: revE, Apr-2003; PackageReference: MTD48; Publisher: Altium Limited; PackageDescription: Molded TSSOP, Jedec, 12.5 x 6.1 x 0.9mm Body, 48 Lead, 0.50mm Pitch; Supplier 1: Digi-Key; Supplier Part Number 1: DS90C363MTD-ND; RoHS: N; PinCount: 48; Code_JEDEC: MO-153-ED; ComponentLink1Description: DS90C363 Datasheet; ComponentLink1URL: http://www.national.com/ds/DS/DS90C363.pdf; ComponentLink2Description: DS90C363 Web Page; ComponentLink2URL: http://www.national.com/pf/DS/DS90C363.html; ComponentLink3Description: MTD48 Package Page; ComponentLink3URL: http://www.national.com/packaging/folders/mtd48.html
footprint MTD48_N (TSSOP, 48-Leads, Body 12.5x6.1mm, Pitch 0.5mm, IPC Medium Density)
footprint MTD48_L (TSSOP, 48-Leads, Body 12.5x6.1mm, Pitch 0.5mm, IPC High Density)
footprint MTD48_M (TSSOP, 48-Leads, Body 12.5x6.1mm, Pitch 0.5mm, IPC Low Density)
pins: 1 TxIN4 (in), 2 VCC (power), 3 TxIN5 (in), 4 TxIN6 (in), 5 GND (power), 6 TxIN7 (in), 7 TxIN8 (in), 8 VCC (power), 9 TxIN9 (in), 10 TxIN10 (in), 11 GND (power), 12 TxIN11 (in), 13 TxIN12 (in), 14 R_FB (in), 15 TxIN13 (in), 16 TxIN14 (in), 17 GND (power), 18 TxIN15 (in), 19 TxIN16 (in), 20 TxIN17 (in), 21 VCC (power), 22 TxIN18 (in), 23 TxIN19 (in), 24 GND (power), 25 TxIN20 (in), 26 TxCLK IN (in), 27 ~{PWR DOWN} (in), 28 PLL GND (power), 29 PLL VCC (power), 30 PLL GND (power), 31 LVDS GND (power), 32 TxCLK OUT+ (out), 33 TxCLK OUT- (out), 34 TxOUT2+ (out), 35 TxOUT2- (out), 36 LVDS GND (power), 37 LVDS VCC (power), 38 TxOUT1+ (out), 39 TxOUT1- (out), 40 TxOUT0+ (out), 41 TxOUT0- (out), 42 LVDS GND (power), 43 NC, 44 TxIN0 (in), 45 TxIN1 (in), 46 GND (power), 47 TxIN2 (in), 48 TxIN3 (in)

## DS90C363MTD/NOPB
designator U?
+3.3V Programmable LVDS Transmitter 18-Bit Flat Panel Display (FPD) Link-65 MHz, 48 pin TSSOP; PartNumber: DS90C363MTD/NOPB; Manufacturer: National Semiconductor; PackageTopMarking: NS2ZXYTTE#*DS90C363MTD*BBBBB; PowerWise: N; CompType: Interface IC; Published: 16-Nov-2010; DatasheetVersion: Sep-1999; PackageVersion: revE, Apr-2003; PackageReference: MTD48; Publisher: Altium Limited; PackageDescription: Molded TSSOP, Jedec, 12.5 x 6.1 x 0.9mm Body, 48 Lead, 0.50mm Pitch; Supplier 1: Digi-Key; Supplier Part Number 1: DS90C363MTD/NOPB-ND; Supplier 2: Farnell; Supplier Part Number 2: 1685586; RoHS: Y; PinCount: 48; Code_JEDEC: MO-153-ED; ComponentLink1Description: DS90C363 Datasheet; ComponentLink1URL: http://www.national.com/ds/DS/DS90C363.pdf; ComponentLink2Description: DS90C363 Web Page; ComponentLink2URL: http://www.national.com/pf/DS/DS90C363.html; ComponentLink3Description: MTD48 Package Page; ComponentLink3URL: http://www.national.com/packaging/folders/mtd48.html
footprint MTD48_N (TSSOP, 48-Leads, Body 12.5x6.1mm, Pitch 0.5mm, IPC Medium Density)
footprint MTD48_L (TSSOP, 48-Leads, Body 12.5x6.1mm, Pitch 0.5mm, IPC High Density)
footprint MTD48_M (TSSOP, 48-Leads, Body 12.5x6.1mm, Pitch 0.5mm, IPC Low Density)
pins: 1 TxIN4 (in), 2 VCC (power), 3 TxIN5 (in), 4 TxIN6 (in), 5 GND (power), 6 TxIN7 (in), 7 TxIN8 (in), 8 VCC (power), 9 TxIN9 (in), 10 TxIN10 (in), 11 GND (power), 12 TxIN11 (in), 13 TxIN12 (in), 14 R_FB (in), 15 TxIN13 (in), 16 TxIN14 (in), 17 GND (power), 18 TxIN15 (in), 19 TxIN16 (in), 20 TxIN17 (in), 21 VCC (power), 22 TxIN18 (in), 23 TxIN19 (in), 24 GND (power), 25 TxIN20 (in), 26 TxCLK IN (in), 27 ~{PWR DOWN} (in), 28 PLL GND (power), 29 PLL VCC (power), 30 PLL GND (power), 31 LVDS GND (power), 32 TxCLK OUT+ (out), 33 TxCLK OUT- (out), 34 TxOUT2+ (out), 35 TxOUT2- (out), 36 LVDS GND (power), 37 LVDS VCC (power), 38 TxOUT1+ (out), 39 TxOUT1- (out), 40 TxOUT0+ (out), 41 TxOUT0- (out), 42 LVDS GND (power), 43 NC, 44 TxIN0 (in), 45 TxIN1 (in), 46 GND (power), 47 TxIN2 (in), 48 TxIN3 (in)

## DS90C363MTDX
designator U?
+3.3V Programmable LVDS Transmitter 18-Bit Flat Panel Display (FPD) Link-65 MHz, 48 pin TSSOP; PartNumber: DS90C363MTDX; Manufacturer: National Semiconductor; PackageTopMarking: NS2ZXYTTE#*DS90C363MTD*BBBBB; PowerWise: N; CompType: Interface IC; Published: 16-Nov-2010; DatasheetVersion: Sep-1999; PackageVersion: revE, Apr-2003; PackageReference: MTD48; Publisher: Altium Limited; PackageDescription: Molded TSSOP, Jedec, 12.5 x 6.1 x 0.9mm Body, 48 Lead, 0.50mm Pitch; Supplier 1: Digi-Key; Supplier Part Number 1: DS90C363MTDX-ND; RoHS: N; PinCount: 48; Code_JEDEC: MO-153-ED; ComponentLink1Description: DS90C363 Datasheet; ComponentLink1URL: http://www.national.com/ds/DS/DS90C363.pdf; ComponentLink2Description: DS90C363 Web Page; ComponentLink2URL: http://www.national.com/pf/DS/DS90C363.html; ComponentLink3Description: MTD48 Package Page; ComponentLink3URL: http://www.national.com/packaging/folders/mtd48.html
footprint MTD48_N (TSSOP, 48-Leads, Body 12.5x6.1mm, Pitch 0.5mm, IPC Medium Density)
footprint MTD48_L (TSSOP, 48-Leads, Body 12.5x6.1mm, Pitch 0.5mm, IPC High Density)
footprint MTD48_M (TSSOP, 48-Leads, Body 12.5x6.1mm, Pitch 0.5mm, IPC Low Density)
pins: 1 TxIN4 (in), 2 VCC (power), 3 TxIN5 (in), 4 TxIN6 (in), 5 GND (power), 6 TxIN7 (in), 7 TxIN8 (in), 8 VCC (power), 9 TxIN9 (in), 10 TxIN10 (in), 11 GND (power), 12 TxIN11 (in), 13 TxIN12 (in), 14 R_FB (in), 15 TxIN13 (in), 16 TxIN14 (in), 17 GND (power), 18 TxIN15 (in), 19 TxIN16 (in), 20 TxIN17 (in), 21 VCC (power), 22 TxIN18 (in), 23 TxIN19 (in), 24 GND (power), 25 TxIN20 (in), 26 TxCLK IN (in), 27 ~{PWR DOWN} (in), 28 PLL GND (power), 29 PLL VCC (power), 30 PLL GND (power), 31 LVDS GND (power), 32 TxCLK OUT+ (out), 33 TxCLK OUT- (out), 34 TxOUT2+ (out), 35 TxOUT2- (out), 36 LVDS GND (power), 37 LVDS VCC (power), 38 TxOUT1+ (out), 39 TxOUT1- (out), 40 TxOUT0+ (out), 41 TxOUT0- (out), 42 LVDS GND (power), 43 NC, 44 TxIN0 (in), 45 TxIN1 (in), 46 GND (power), 47 TxIN2 (in), 48 TxIN3 (in)

## DS90C365AMT
designator U?
LVDS Transmitter Flat Panel Display 85MHz, 48-pin TSSOP; PartNumber: DS90C365AMT; Manufacturer: National Semiconductor; PackageTopMarking: NSUZXYTTE#*DS90C365AMT; PowerWise: N; CompType: Interface IC; Published: 4-Dec-2008; DatasheetVersion: Aug-2008; PackageVersion: revE, Apr-2003; PackageReference: MTD48; Publisher: Altium Limited; PackageDescription: Molded TSSOP, Jedec, 12.5 x 6.1 x 0.9mm Body, 48 Lead, 0.50mm Pitch; Supplier 1: Farnell; Supplier Part Number 1: 8181268; RoHS: N; PinCount: 48; Code_JEDEC: MO-153-ED; ComponentLink1Description: DS90C365A Datasheet; ComponentLink1URL: http://www.national.com/ds/DS/DS90C365A.pdf; ComponentLink2Description: DS90C365A Web Page; ComponentLink2URL: http://www.national.com/pf/DS/DS90C365A.html; ComponentLink3Description: MTD48 Package Page; ComponentLink3URL: http://www.national.com/packaging/folders/mtd48.html
footprint MTD48_N (TSSOP, 48-Leads, Body 12.5x6.1mm, Pitch 0.5mm, IPC Medium Density)
footprint MTD48_L (TSSOP, 48-Leads, Body 12.5x6.1mm, Pitch 0.5mm, IPC High Density)
footprint MTD48_M (TSSOP, 48-Leads, Body 12.5x6.1mm, Pitch 0.5mm, IPC Low Density)
pins: 1 TxIN4 (in), 2 VCC (power), 3 TxIN5 (in), 4 TxIN6 (in), 5 GND (power), 6 TxIN7 (in), 7 TxIN8 (in), 8 VCC (power), 9 TxIN9 (in), 10 TxIN10 (in), 11 GND (power), 12 TxIN11 (in), 13 TxIN12 (in), 14 R_FB (in), 15 TxIN13 (in), 16 TxIN14 (in), 17 GND (power), 18 TxIN15 (in), 19 TxIN16 (in), 20 TxIN17 (in), 21 VCC (power), 22 TxIN18 (in), 23 TxIN19 (in), 24 GND (power), 25 TxIN20 (in), 26 TxCLK IN (in), 27 ~{PWR DOWN} (in), 28 PLL GND (power), 29 PLL VCC (power), 30 PLL GND (power), 31 LVDS GND (power), 32 TxCLK OUT+ (out), 33 TxCLK OUT- (out), 34 TxOUT2+ (out), 35 TxOUT2- (out), 36 LVDS GND (power), 37 LVDS VCC (power), 38 TxOUT1+ (out), 39 TxOUT1- (out), 40 TxOUT0+ (out), 41 TxOUT0- (out), 42 LVDS GND (power), 43 NC, 44 TxIN0 (in), 45 TxIN1 (in), 46 GND (power), 47 TxIN2 (in), 48 TxIN3 (in)

## DS90C365AMT/NOPB
designator U?
+3.3V Programmable LVDS Transmitter 18-Bit Flat Panel Display Link-87.5 MHz, 48-pin TSSOP, Pb-Free; PartNumber: DS90C365AMT/NOPB; Manufacturer: National Semiconductor; PackageTopMarking: NSUZXYTTE#*DS90C365AMT; PowerWise: N; CompType: Interface IC; Published: 1-Mar-2010; DatasheetVersion: Aug-2008; PackageVersion: revE, Apr-2003; PackageReference: MTD48; Publisher: Altium Limited; PackageDescription: Molded TSSOP, Jedec, 12.5 x 6.1 x 0.9mm Body, 48 Lead, 0.50mm Pitch; Supplier 1: Farnell; Supplier Part Number 1: 1693936; RoHS: Y; PinCount: 48; Code_JEDEC: MO-153-ED; ComponentLink1Description: DS90C365A Datasheet; ComponentLink1URL: http://www.national.com/ds/DS/DS90C365A.pdf; ComponentLink2Description: DS90C365A Web Page; ComponentLink2URL: http://www.national.com/pf/DS/DS90C365A.html; ComponentLink3Description: MTD48 Package Page; ComponentLink3URL: http://www.national.com/packaging/folders/mtd48.html
footprint MTD48_N (TSSOP, 48-Leads, Body 12.5x6.1mm, Pitch 0.5mm, IPC Medium Density)
footprint MTD48_L (TSSOP, 48-Leads, Body 12.5x6.1mm, Pitch 0.5mm, IPC High Density)
footprint MTD48_M (TSSOP, 48-Leads, Body 12.5x6.1mm, Pitch 0.5mm, IPC Low Density)
pins: 1 TxIN4 (in), 2 VCC (power), 3 TxIN5 (in), 4 TxIN6 (in), 5 GND (power), 6 TxIN7 (in), 7 TxIN8 (in), 8 VCC (power), 9 TxIN9 (in), 10 TxIN10 (in), 11 GND (power), 12 TxIN11 (in), 13 TxIN12 (in), 14 R_FB (in), 15 TxIN13 (in), 16 TxIN14 (in), 17 GND (power), 18 TxIN15 (in), 19 TxIN16 (in), 20 TxIN17 (in), 21 VCC (power), 22 TxIN18 (in), 23 TxIN19 (in), 24 GND (power), 25 TxIN20 (in), 26 TxCLK IN (in), 27 ~{PWR DOWN} (in), 28 PLL GND (power), 29 PLL VCC (power), 30 PLL GND (power), 31 LVDS GND (power), 32 TxCLK OUT+ (out), 33 TxCLK OUT- (out), 34 TxOUT2+ (out), 35 TxOUT2- (out), 36 LVDS GND (power), 37 LVDS VCC (power), 38 TxOUT1+ (out), 39 TxOUT1- (out), 40 TxOUT0+ (out), 41 TxOUT0- (out), 42 LVDS GND (power), 43 NC, 44 TxIN0 (in), 45 TxIN1 (in), 46 GND (power), 47 TxIN2 (in), 48 TxIN3 (in)

## DS90C365AMTX
designator U?
+3.3V Programmable LVDS Transmitter 18-Bit Flat Panel Display Link-87.5 MHz, 48-pin TSSOP; PartNumber: DS90C365AMTX; Manufacturer: National Semiconductor; PackageTopMarking: NSUZXYTTE#*DS90C365AMT; PowerWise: N; CompType: Interface IC; Published: 1-Mar-2010; DatasheetVersion: Aug-2008; PackageVersion: revE, Apr-2003; PackageReference: MTD48; Publisher: Altium Limited; PackageDescription: Molded TSSOP, Jedec, 12.5 x 6.1 x 0.9mm Body, 48 Lead, 0.50mm Pitch; RoHS: N; PinCount: 48; Code_JEDEC: MO-153-ED; ComponentLink1Description: DS90C365A Datasheet; ComponentLink1URL: http://www.national.com/ds/DS/DS90C365A.pdf; ComponentLink2Description: DS90C365A Web Page; ComponentLink2URL: http://www.national.com/pf/DS/DS90C365A.html; ComponentLink3Description: MTD48 Package Page; ComponentLink3URL: http://www.national.com/packaging/folders/mtd48.html
footprint MTD48_N (TSSOP, 48-Leads, Body 12.5x6.1mm, Pitch 0.5mm, IPC Medium Density)
footprint MTD48_L (TSSOP, 48-Leads, Body 12.5x6.1mm, Pitch 0.5mm, IPC High Density)
footprint MTD48_M (TSSOP, 48-Leads, Body 12.5x6.1mm, Pitch 0.5mm, IPC Low Density)
pins: 1 TxIN4 (in), 2 VCC (power), 3 TxIN5 (in), 4 TxIN6 (in), 5 GND (power), 6 TxIN7 (in), 7 TxIN8 (in), 8 VCC (power), 9 TxIN9 (in), 10 TxIN10 (in), 11 GND (power), 12 TxIN11 (in), 13 TxIN12 (in), 14 R_FB (in), 15 TxIN13 (in), 16 TxIN14 (in), 17 GND (power), 18 TxIN15 (in), 19 TxIN16 (in), 20 TxIN17 (in), 21 VCC (power), 22 TxIN18 (in), 23 TxIN19 (in), 24 GND (power), 25 TxIN20 (in), 26 TxCLK IN (in), 27 ~{PWR DOWN} (in), 28 PLL GND (power), 29 PLL VCC (power), 30 PLL GND (power), 31 LVDS GND (power), 32 TxCLK OUT+ (out), 33 TxCLK OUT- (out), 34 TxOUT2+ (out), 35 TxOUT2- (out), 36 LVDS GND (power), 37 LVDS VCC (power), 38 TxOUT1+ (out), 39 TxOUT1- (out), 40 TxOUT0+ (out), 41 TxOUT0- (out), 42 LVDS GND (power), 43 NC, 44 TxIN0 (in), 45 TxIN1 (in), 46 GND (power), 47 TxIN2 (in), 48 TxIN3 (in)

## DS90C365AMTX/NOPB
designator U?
+3.3V Programmable LVDS Transmitter 18-Bit Flat Panel Display Link-87.5 MHz, 48-pin TSSOP, Pb-Free; PartNumber: DS90C365AMTX/NOPB; Manufacturer: National Semiconductor; PackageTopMarking: NSUZXYTTE#*DS90C365AMT; PowerWise: N; CompType: Interface IC; Published: 1-Mar-2010; DatasheetVersion: Aug-2008; PackageVersion: revE, Apr-2003; PackageReference: MTD48; Publisher: Altium Limited; PackageDescription: Molded TSSOP, Jedec, 12.5 x 6.1 x 0.9mm Body, 48 Lead, 0.50mm Pitch; Supplier 1: Digi-Key; Supplier Part Number 1: DS90C365AMTX-ND; RoHS: Y; PinCount: 48; Code_JEDEC: MO-153-ED; ComponentLink1Description: DS90C365A Datasheet; ComponentLink1URL: http://www.national.com/ds/DS/DS90C365A.pdf; ComponentLink2Description: DS90C365A Web Page; ComponentLink2URL: http://www.national.com/pf/DS/DS90C365A.html; ComponentLink3Description: MTD48 Package Page; ComponentLink3URL: http://www.national.com/packaging/folders/mtd48.html
footprint MTD48_N (TSSOP, 48-Leads, Body 12.5x6.1mm, Pitch 0.5mm, IPC Medium Density)
footprint MTD48_L (TSSOP, 48-Leads, Body 12.5x6.1mm, Pitch 0.5mm, IPC High Density)
footprint MTD48_M (TSSOP, 48-Leads, Body 12.5x6.1mm, Pitch 0.5mm, IPC Low Density)
pins: 1 TxIN4 (in), 2 VCC (power), 3 TxIN5 (in), 4 TxIN6 (in), 5 GND (power), 6 TxIN7 (in), 7 TxIN8 (in), 8 VCC (power), 9 TxIN9 (in), 10 TxIN10 (in), 11 GND (power), 12 TxIN11 (in), 13 TxIN12 (in), 14 R_FB (in), 15 TxIN13 (in), 16 TxIN14 (in), 17 GND (power), 18 TxIN15 (in), 19 TxIN16 (in), 20 TxIN17 (in), 21 VCC (power), 22 TxIN18 (in), 23 TxIN19 (in), 24 GND (power), 25 TxIN20 (in), 26 TxCLK IN (in), 27 ~{PWR DOWN} (in), 28 PLL GND (power), 29 PLL VCC (power), 30 PLL GND (power), 31 LVDS GND (power), 32 TxCLK OUT+ (out), 33 TxCLK OUT- (out), 34 TxOUT2+ (out), 35 TxOUT2- (out), 36 LVDS GND (power), 37 LVDS VCC (power), 38 TxOUT1+ (out), 39 TxOUT1- (out), 40 TxOUT0+ (out), 41 TxOUT0- (out), 42 LVDS GND (power), 43 NC, 44 TxIN0 (in), 45 TxIN1 (in), 46 GND (power), 47 TxIN2 (in), 48 TxIN3 (in)

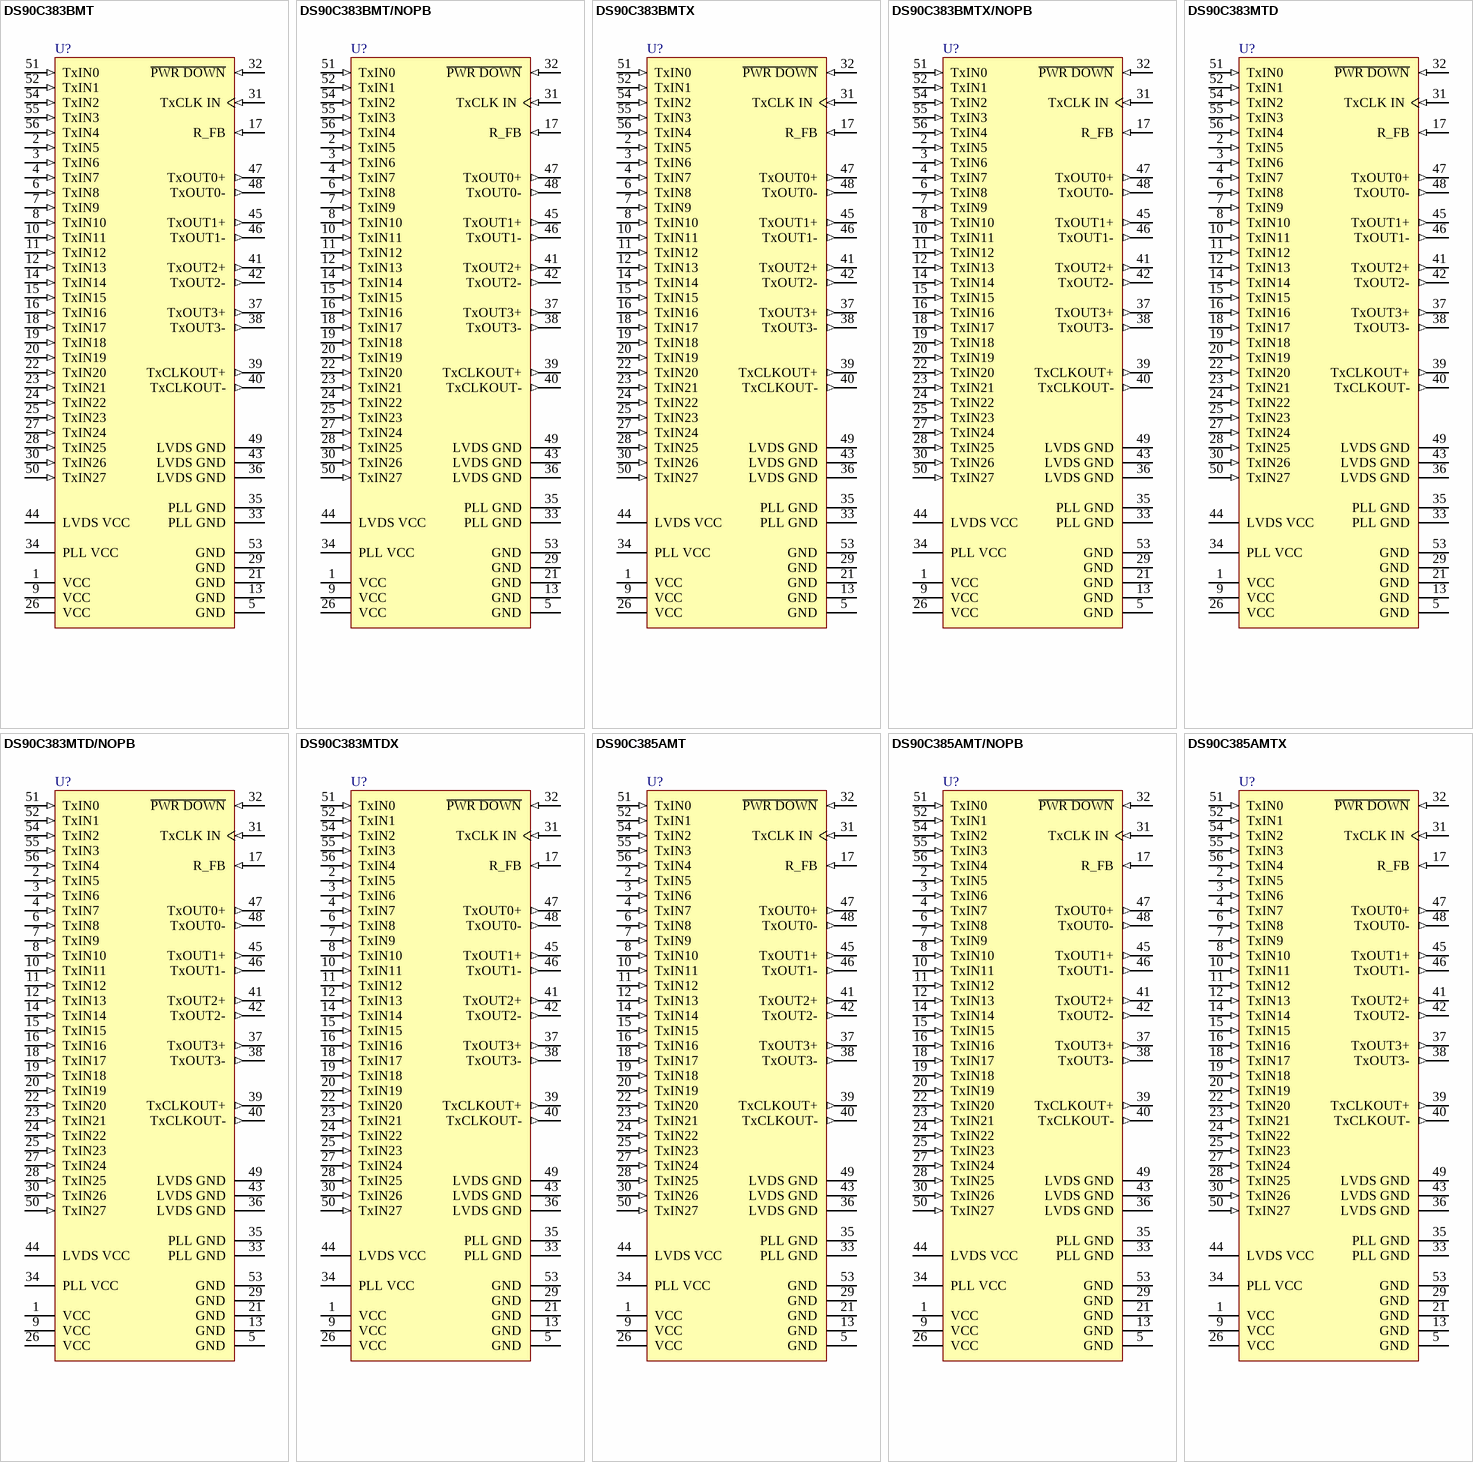
[diagram p29: symbols DS90C383BMT to DS90C385AMTX]

## DS90C383BMT
designator U?
+3.3V Programmable LVDS Transmitter 24-Bit Flat Panel Display (FPD) Link -65 MHz, 56-pin TSSOP; PartNumber: DS90C383BMT; Manufacturer: National Semiconductor; PackageTopMarking: NSUZXYTTE#*DS90C383BMT; PowerWise: N; CompType: Interface IC; Published: 4-Dec-2008; DatasheetVersion: Oct-2006; PackageVersion: revD, Apr-2003; PackageReference: MTD56; Publisher: Altium Limited; PackageDescription: Molded TSSOP, Jedec, 14 x 6.1 x 0.9mm Body, 56 Lead, 0.50mm Pitch; Supplier 1: Farnell; Supplier Part Number 1: 8181276; RoHS: N; PinCount: 56; Code_IPC: TSSOP50P810-56; ComponentLink1Description: DS90C383B Datasheet; ComponentLink1URL: http://www.national.com/ds/DS/DS90C383B.pdf; ComponentLink2Description: DS90C383B Web Page; ComponentLink2URL: http://www.national.com/pf/DS/DS90C383B.html; ComponentLink3Description: MTD56 Package Page; ComponentLink3URL: http://www.national.com/packaging/folders/mtd56.html
footprint MTD56_N (TSSOP, 56-Leads, Body 14x6.1mm, Pitch 0.5mm, IPC Medium Density)
footprint MTD56_L (TSSOP, 56-Leads, Body 14x6.1mm, Pitch 0.5mm, IPC High Density)
footprint MTD56_M (TSSOP, 56-Leads, Body 14x6.1mm, Pitch 0.5mm, IPC Low Density)
pins: 1 VCC (power), 2 TxIN5 (in), 3 TxIN6 (in), 4 TxIN7 (in), 5 GND (power), 6 TxIN8 (in), 7 TxIN9 (in), 8 TxIN10 (in), 9 VCC (power), 10 TxIN11 (in), 11 TxIN12 (in), 12 TxIN13 (in), 13 GND (power), 14 TxIN14 (in), 15 TxIN15 (in), 16 TxIN16 (in), 17 R_FB (in), 18 TxIN17 (in), 19 TxIN18 (in), 20 TxIN19 (in), 21 GND (power), 22 TxIN20 (in), 23 TxIN21 (in), 24 TxIN22 (in), 25 TxIN23 (in), 26 VCC (power), 27 TxIN24 (in), 28 TxIN25 (in), 29 GND (power), 30 TxIN26 (in), 31 TxCLK IN (in), 32 ~{PWR DOWN} (in), 33 PLL GND (power), 34 PLL VCC (power), 35 PLL GND (power), 36 LVDS GND (power), 37 TxOUT3+ (out), 38 TxOUT3- (out), 39 TxCLKOUT+ (out), 40 TxCLKOUT- (out), 41 TxOUT2+ (out), 42 TxOUT2- (out), 43 LVDS GND (power), 44 LVDS VCC (power), 45 TxOUT1+ (out), 46 TxOUT1- (out), 47 TxOUT0+ (out), 48 TxOUT0- (out), 49 LVDS GND (power), 50 TxIN27 (in), 51 TxIN0 (in), 52 TxIN1 (in), 53 GND (power), 54 TxIN2 (in), 55 TxIN3 (in), 56 TxIN4 (in)

## DS90C383BMT/NOPB
designator U?
+3.3V Programmable LVDS Transmitter 24-Bit Flat Panel Display (FPD) Link - 65 MHz, 56-pin TSSOP, Pb-Free; PartNumber: DS90C383BMT/NOPB; Manufacturer: National Semiconductor; PackageTopMarking: NSUZXYTTE#*DS90C383BMT; PowerWise: N; CompType: Interface IC; Published: 1-Mar-2010; DatasheetVersion: Oct-2006; PackageVersion: revD, Apr-2003; PackageReference: MTD56; Publisher: Altium Limited; PackageDescription: Molded TSSOP, Jedec, 14 x 6.1 x 0.9mm Body, 56 Lead, 0.50mm Pitch; Supplier 1: Digi-Key; Supplier Part Number 1: DS90C383BMT-ND; RoHS: Y; PinCount: 56; Code_IPC: TSSOP50P810-56; ComponentLink1Description: DS90C383B Datasheet; ComponentLink1URL: http://www.national.com/ds/DS/DS90C383B.pdf; ComponentLink2Description: DS90C383B Web Page; ComponentLink2URL: http://www.national.com/pf/DS/DS90C383B.html; ComponentLink3Description: MTD56 Package Page; ComponentLink3URL: http://www.national.com/packaging/folders/mtd56.html
footprint MTD56_N (TSSOP, 56-Leads, Body 14x6.1mm, Pitch 0.5mm, IPC Medium Density)
footprint MTD56_L (TSSOP, 56-Leads, Body 14x6.1mm, Pitch 0.5mm, IPC High Density)
footprint MTD56_M (TSSOP, 56-Leads, Body 14x6.1mm, Pitch 0.5mm, IPC Low Density)
pins: 1 VCC (power), 2 TxIN5 (in), 3 TxIN6 (in), 4 TxIN7 (in), 5 GND (power), 6 TxIN8 (in), 7 TxIN9 (in), 8 TxIN10 (in), 9 VCC (power), 10 TxIN11 (in), 11 TxIN12 (in), 12 TxIN13 (in), 13 GND (power), 14 TxIN14 (in), 15 TxIN15 (in), 16 TxIN16 (in), 17 R_FB (in), 18 TxIN17 (in), 19 TxIN18 (in), 20 TxIN19 (in), 21 GND (power), 22 TxIN20 (in), 23 TxIN21 (in), 24 TxIN22 (in), 25 TxIN23 (in), 26 VCC (power), 27 TxIN24 (in), 28 TxIN25 (in), 29 GND (power), 30 TxIN26 (in), 31 TxCLK IN (in), 32 ~{PWR DOWN} (in), 33 PLL GND (power), 34 PLL VCC (power), 35 PLL GND (power), 36 LVDS GND (power), 37 TxOUT3+ (out), 38 TxOUT3- (out), 39 TxCLKOUT+ (out), 40 TxCLKOUT- (out), 41 TxOUT2+ (out), 42 TxOUT2- (out), 43 LVDS GND (power), 44 LVDS VCC (power), 45 TxOUT1+ (out), 46 TxOUT1- (out), 47 TxOUT0+ (out), 48 TxOUT0- (out), 49 LVDS GND (power), 50 TxIN27 (in), 51 TxIN0 (in), 52 TxIN1 (in), 53 GND (power), 54 TxIN2 (in), 55 TxIN3 (in), 56 TxIN4 (in)

## DS90C383BMTX
designator U?
+3.3V Programmable LVDS Transmitter 24-Bit Flat Panel Display (FPD) Link - 65 MHz, 56-pin TSSOP; PartNumber: DS90C383BMTX; Manufacturer: National Semiconductor; PackageTopMarking: NSUZXYTTE#*DS90C383BMT; PowerWise: N; CompType: Interface IC; Published: 1-Mar-2010; DatasheetVersion: Oct-2006; PackageVersion: revD, Apr-2003; PackageReference: MTD56; Publisher: Altium Limited; PackageDescription: Molded TSSOP, Jedec, 14 x 6.1 x 0.9mm Body, 56 Lead, 0.50mm Pitch; RoHS: N; PinCount: 56; Code_IPC: TSSOP50P810-56; ComponentLink1Description: DS90C383B Datasheet; ComponentLink1URL: http://www.national.com/ds/DS/DS90C383B.pdf; ComponentLink2Description: DS90C383B Web Page; ComponentLink2URL: http://www.national.com/pf/DS/DS90C383B.html; ComponentLink3Description: MTD56 Package Page; ComponentLink3URL: http://www.national.com/packaging/folders/mtd56.html
footprint MTD56_N (TSSOP, 56-Leads, Body 14x6.1mm, Pitch 0.5mm, IPC Medium Density)
footprint MTD56_L (TSSOP, 56-Leads, Body 14x6.1mm, Pitch 0.5mm, IPC High Density)
footprint MTD56_M (TSSOP, 56-Leads, Body 14x6.1mm, Pitch 0.5mm, IPC Low Density)
pins: 1 VCC (power), 2 TxIN5 (in), 3 TxIN6 (in), 4 TxIN7 (in), 5 GND (power), 6 TxIN8 (in), 7 TxIN9 (in), 8 TxIN10 (in), 9 VCC (power), 10 TxIN11 (in), 11 TxIN12 (in), 12 TxIN13 (in), 13 GND (power), 14 TxIN14 (in), 15 TxIN15 (in), 16 TxIN16 (in), 17 R_FB (in), 18 TxIN17 (in), 19 TxIN18 (in), 20 TxIN19 (in), 21 GND (power), 22 TxIN20 (in), 23 TxIN21 (in), 24 TxIN22 (in), 25 TxIN23 (in), 26 VCC (power), 27 TxIN24 (in), 28 TxIN25 (in), 29 GND (power), 30 TxIN26 (in), 31 TxCLK IN (in), 32 ~{PWR DOWN} (in), 33 PLL GND (power), 34 PLL VCC (power), 35 PLL GND (power), 36 LVDS GND (power), 37 TxOUT3+ (out), 38 TxOUT3- (out), 39 TxCLKOUT+ (out), 40 TxCLKOUT- (out), 41 TxOUT2+ (out), 42 TxOUT2- (out), 43 LVDS GND (power), 44 LVDS VCC (power), 45 TxOUT1+ (out), 46 TxOUT1- (out), 47 TxOUT0+ (out), 48 TxOUT0- (out), 49 LVDS GND (power), 50 TxIN27 (in), 51 TxIN0 (in), 52 TxIN1 (in), 53 GND (power), 54 TxIN2 (in), 55 TxIN3 (in), 56 TxIN4 (in)

## DS90C383BMTX/NOPB
designator U?
+3.3V Programmable LVDS Transmitter 24-Bit Flat Panel Display (FPD) Link - 65 MHz, 56-pin TSSOP, Pb-Free; PartNumber: DS90C383BMTX/NOPB; Manufacturer: National Semiconductor; PackageTopMarking: NSUZXYTTE#*DS90C383BMT; PowerWise: N; CompType: Interface IC; Published: 1-Mar-2010; DatasheetVersion: Oct-2006; PackageVersion: revD, Apr-2003; PackageReference: MTD56; Publisher: Altium Limited; PackageDescription: Molded TSSOP, Jedec, 14 x 6.1 x 0.9mm Body, 56 Lead, 0.50mm Pitch; Supplier 1: Digi-Key; Supplier Part Number 1: DS90C383BMTX-ND; RoHS: Y; PinCount: 56; Code_IPC: TSSOP50P810-56; ComponentLink1Description: DS90C383B Datasheet; ComponentLink1URL: http://www.national.com/ds/DS/DS90C383B.pdf; ComponentLink2Description: DS90C383B Web Page; ComponentLink2URL: http://www.national.com/pf/DS/DS90C383B.html; ComponentLink3Description: MTD56 Package Page; ComponentLink3URL: http://www.national.com/packaging/folders/mtd56.html
footprint MTD56_N (TSSOP, 56-Leads, Body 14x6.1mm, Pitch 0.5mm, IPC Medium Density)
footprint MTD56_L (TSSOP, 56-Leads, Body 14x6.1mm, Pitch 0.5mm, IPC High Density)
footprint MTD56_M (TSSOP, 56-Leads, Body 14x6.1mm, Pitch 0.5mm, IPC Low Density)
pins: 1 VCC (power), 2 TxIN5 (in), 3 TxIN6 (in), 4 TxIN7 (in), 5 GND (power), 6 TxIN8 (in), 7 TxIN9 (in), 8 TxIN10 (in), 9 VCC (power), 10 TxIN11 (in), 11 TxIN12 (in), 12 TxIN13 (in), 13 GND (power), 14 TxIN14 (in), 15 TxIN15 (in), 16 TxIN16 (in), 17 R_FB (in), 18 TxIN17 (in), 19 TxIN18 (in), 20 TxIN19 (in), 21 GND (power), 22 TxIN20 (in), 23 TxIN21 (in), 24 TxIN22 (in), 25 TxIN23 (in), 26 VCC (power), 27 TxIN24 (in), 28 TxIN25 (in), 29 GND (power), 30 TxIN26 (in), 31 TxCLK IN (in), 32 ~{PWR DOWN} (in), 33 PLL GND (power), 34 PLL VCC (power), 35 PLL GND (power), 36 LVDS GND (power), 37 TxOUT3+ (out), 38 TxOUT3- (out), 39 TxCLKOUT+ (out), 40 TxCLKOUT- (out), 41 TxOUT2+ (out), 42 TxOUT2- (out), 43 LVDS GND (power), 44 LVDS VCC (power), 45 TxOUT1+ (out), 46 TxOUT1- (out), 47 TxOUT0+ (out), 48 TxOUT0- (out), 49 LVDS GND (power), 50 TxIN27 (in), 51 TxIN0 (in), 52 TxIN1 (in), 53 GND (power), 54 TxIN2 (in), 55 TxIN3 (in), 56 TxIN4 (in)

## DS90C383MTD
designator U?
+3.3V Programmable LVDS Transmitter 24-Bit Flat Panel Display (FPD) Link-65 MHz, 56 pin TSSOP; PartNumber: DS90C383MTD; Manufacturer: National Semiconductor; PackageTopMarking: NS2ZXYTTE#*DS90C383MTD*BBBBB; PowerWise: N; CompType: Interface IC; Published: 16-Nov-2010; DatasheetVersion: Nov-2000; PackageVersion: revD, Apr-2003; PackageReference: MTD56; Publisher: Altium Limited; PackageDescription: Molded TSSOP, Jedec, 14 x 6.1 x 0.9mm Body, 56 Lead, 0.50mm Pitch; RoHS: N; PinCount: 56; Code_IPC: TSSOP50P810-56; ComponentLink1Description: DS90C383 Datasheet; ComponentLink1URL: http://www.national.com/ds/DS/DS90C383.pdf; ComponentLink2Description: DS90C383 Web Page; ComponentLink2URL: http://www.national.com/pf/DS/DS90C383.html; ComponentLink3Description: MTD56 Package Page; ComponentLink3URL: http://www.national.com/packaging/folders/mtd56.html
footprint MTD56_N (TSSOP, 56-Leads, Body 14x6.1mm, Pitch 0.5mm, IPC Medium Density)
footprint MTD56_L (TSSOP, 56-Leads, Body 14x6.1mm, Pitch 0.5mm, IPC High Density)
footprint MTD56_M (TSSOP, 56-Leads, Body 14x6.1mm, Pitch 0.5mm, IPC Low Density)
pins: 1 VCC (power), 2 TxIN5 (in), 3 TxIN6 (in), 4 TxIN7 (in), 5 GND (power), 6 TxIN8 (in), 7 TxIN9 (in), 8 TxIN10 (in), 9 VCC (power), 10 TxIN11 (in), 11 TxIN12 (in), 12 TxIN13 (in), 13 GND (power), 14 TxIN14 (in), 15 TxIN15 (in), 16 TxIN16 (in), 17 R_FB (in), 18 TxIN17 (in), 19 TxIN18 (in), 20 TxIN19 (in), 21 GND (power), 22 TxIN20 (in), 23 TxIN21 (in), 24 TxIN22 (in), 25 TxIN23 (in), 26 VCC (power), 27 TxIN24 (in), 28 TxIN25 (in), 29 GND (power), 30 TxIN26 (in), 31 TxCLK IN (in), 32 ~{PWR DOWN} (in), 33 PLL GND (power), 34 PLL VCC (power), 35 PLL GND (power), 36 LVDS GND (power), 37 TxOUT3+ (out), 38 TxOUT3- (out), 39 TxCLKOUT+ (out), 40 TxCLKOUT- (out), 41 TxOUT2+ (out), 42 TxOUT2- (out), 43 LVDS GND (power), 44 LVDS VCC (power), 45 TxOUT1+ (out), 46 TxOUT1- (out), 47 TxOUT0+ (out), 48 TxOUT0- (out), 49 LVDS GND (power), 50 TxIN27 (in), 51 TxIN0 (in), 52 TxIN1 (in), 53 GND (power), 54 TxIN2 (in), 55 TxIN3 (in), 56 TxIN4 (in)